# Altium schematic symbol library LMV321ILT.SchLib: 2 symbols
Pins are listed as number, name and electrical type; pins without a type are passive.

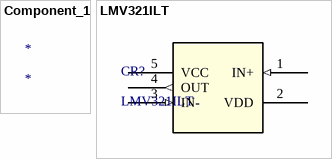
[diagram p0: symbols Component_1 to LMV321ILT]

## Component_1
designator *

## LMV321ILT
designator CR?
No Description Available; SourceLibrary: Update_to_database_2020-12-04; Built_By: EMA_UL_Team; Vendor: STMicroelectronics; Type: DEV; Manufacturer_Part_Number: LMV321ILT; Copyright: Copyright (C) 2018 Accelerated Designs. All rights reserved; RefDes: RefDes
footprint SOT23-5_STM
pins: 1 IN+ (in), 2 VDD (power), 3 IN- (in), 4 OUT (out), 5 VCC (power)